# Altium footprint library 温室大棚监控1.PcbLib: 20 footprints (part 2 of 2)
Each footprint in its own frame and in the unit in brackets; x right, y up, seen from the top. Pads: shape width x height; smd on the part's side, far side on the other; paste and mask are expansions set on the pad; w line width, h text height; cw(c..) or ccw(c..) is an arc to the next point about the centre after c.
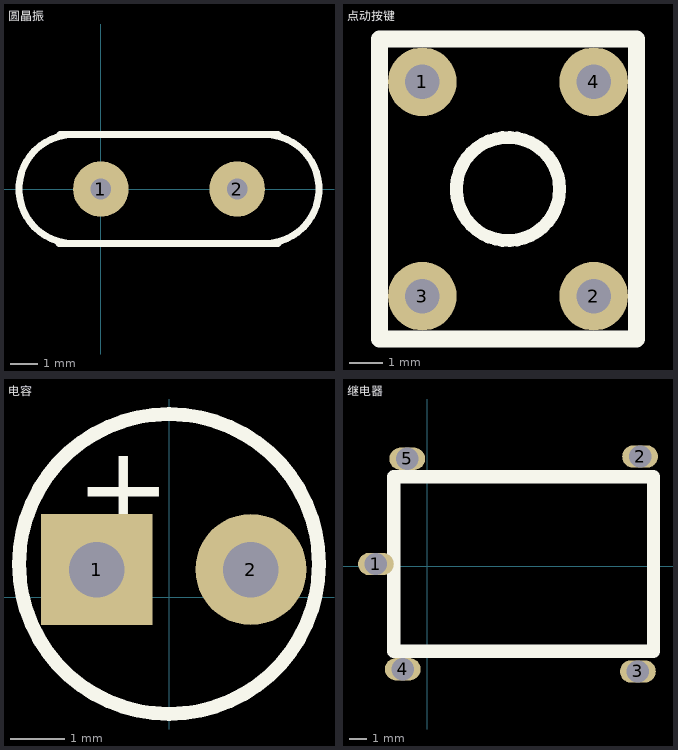
[diagram p1: the footprints below, top view; thin cyan lines are the x and y axes]

## 圆晶振 [mil]
pads (2):
  round 80 hole 30: 1(0,0) 2(196.85,0)
Top Overlay:
  lines w10: -60.43,-78.74 255.91,-78.74 ; -59.06,78.74 255.91,78.74 ; -35.28,-78.63 cw(c-39.37,0) -35.23,78.63 ; 232.08,-78.63 ccw(c236.22,0) 232.13,78.63

## 点动按键 [mil]
pads (4):
  round 80 hole 40: 1(-370,410) 2(-170,160) 3(-370,160) 4(-170,410)
Top Overlay:
  circle w15: c-270,285 r60.21
  lines w20: -420,110 -420,460 -120,460 -120,110 -420,110

## 电容 [mil]
pads (2):
  rect 80x80 hole 40: 1(-52,20)
  round 80 hole 40: 2(59,20)
Top Overlay:
  circle w10: c0,24 r108
  text "+" at -67,50 h60

## 继电器 [mil]
pads (5):
  oval 80x50 hole 50: 1(-115,5) 2(475,245) 3(470,-235) 4(-55,-230) 5(-45,240)
Top Overlay:
  lines w30: -75,-190 -75,200 505,200 505,-190 -75,-190